# Altium footprint library Connector_Molex.PcbLib: 815 footprints (part 42 of 51)
Each footprint in its own frame and in the unit in brackets; x right, y up, seen from the top. Pads: shape width x height; smd on the part's side, far side on the other; paste and mask are expansions set on the pad; w line width, h text height; cw(c..) or ccw(c..) is an arc to the next point about the centre after c.
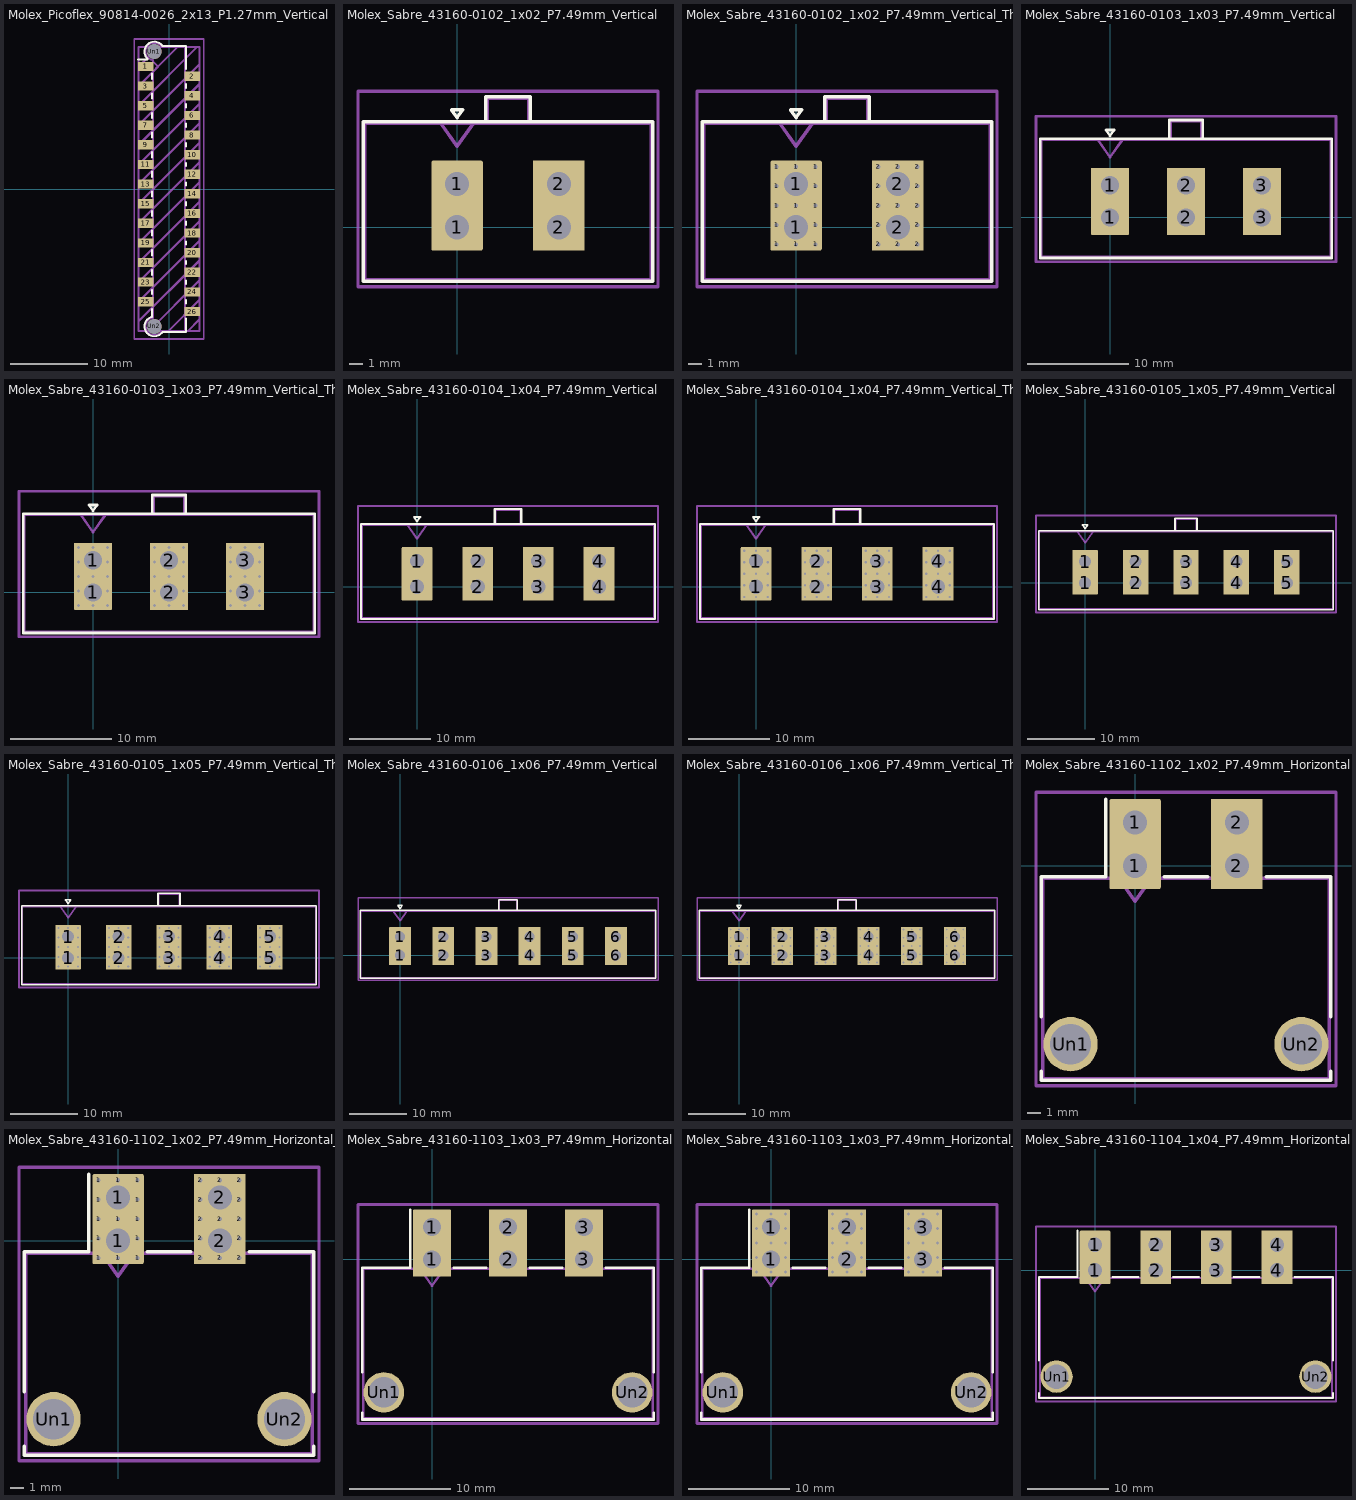
[diagram p41: the footprints below, top view; thin cyan lines are the x and y axes]

## Molex_Picoflex_90814-0026_2x13_P1.27mm_Vertical [mm]
pads (28):
  rect 2x1.2 smd: 1(-3,15.88) 2(3,14.61) 3(-3,13.34) 4(3,12.07) 5(-3,10.8) 6(3,9.53) 7(-3,8.26) 8(3,6.99) 9(-3,5.72) 10(3,4.45) 11(-3,3.18) 12(3,1.91) 13(-3,0.64) 14(3,-0.63) 15(-3,-1.9) 16(3,-3.17) 17(-3,-4.44) 18(3,-5.71) 19(-3,-6.98) 20(3,-8.25) 21(-3,-9.52) 22(3,-10.79) 23(-3,-12.06) 24(3,-13.33) 25(-3,-14.6) 26(3,-15.87)
  round 1.9 hole 1.9: Un1(-1.9,17.8) Un2(-1.9,-17.8)
F.SilkS:
  lines w0.254: -4,16.78 -2.81,16.78 -2.81,16.9 cw(c-1.9,17.8) -0.835,18.51 ; -2.18,-16.55 -2.18,-15.51 ; -2.18,-13.61 -2.18,-13.06 ; -2.18,-11.13 -2.18,-10.46 ; -2.18,-8.59 -2.18,-7.92 ; -2.18,-6.05 -2.18,-5.38 ; -2.18,-3.51 -2.18,-2.84 ; -2.18,-0.97 -2.18,-0.3 ; -2.18,1.57 -2.18,2.24 ; -2.18,4.11 -2.18,4.78 ; -2.18,6.65 -2.18,7.32 ; -2.18,9.19 -2.18,9.86 ; -2.18,11.73 -2.18,12.4 ; -2.18,14.27 -2.18,14.94 ; -2.174,-16.551 ccw(c-1.9,-17.8) -0.85,-18.53 2.18,-18.53 2.18,-16.78 ; -0.82,18.53 2.18,18.53 2.18,15.51 ; 2.18,-14.81 2.18,-14.39 ; 2.18,-12.28 2.18,-11.85 ; 2.18,-9.74 2.18,-9.31 ; 2.18,-7.2 2.18,-6.77 ; 2.18,-4.66 2.18,-4.23 ; 2.18,-2.12 2.18,-1.69 ; 2.18,0.42 2.18,0.85 ; 2.18,2.96 2.18,3.39 ; 2.18,5.5 2.18,5.93 ; 2.18,8.04 2.18,8.47 ; 2.18,10.58 2.18,11.01 ; 2.18,13.06 2.18,13.61
Top Assembly:
  lines w0.254: -2.051,-16.687 ccw(c-1.9,-17.8) -0.95,-18.4 2.05,-18.4 2.05,18.4 -0.93,18.4 ; -2.05,-16.68 -2.05,15.28 -1.45,15.88 -2.05,16.48 -2.05,16.68 cw(c-1.9,17.8) -0.946,18.405
  text "'.Designator'" at -0.51,-4.047 h1
Top Courtyard:
  lines w0.254: -4.5,-19.43 4.5,-19.43 4.5,19.43 -4.5,19.43 -4.5,-19.43
Top Designator:
  text ".Designator" at -7.618,-0.508 h1.52
Dwgs.User:
  lines w0.254: -3.95,-17.16 3.95,-9.26 ; -3.95,-14.62 3.95,-6.72 ; -3.95,-12.08 3.95,-4.18 ; -3.95,-9.54 3.95,-1.64 ; -3.95,-7 3.95,0.9 ; -3.95,-4.46 3.95,3.44 ; -3.95,-1.92 3.95,5.98 ; -3.95,0.62 3.95,8.52 ; -3.95,3.16 3.95,11.06 ; -3.95,5.7 3.95,13.6 ; -3.95,8.24 3.95,16.14 ; -3.95,10.78 3.67,18.4 ; -3.95,13.32 1.13,18.4 ; -3.95,15.86 -1.41,18.4 ; -2.65,-18.4 3.95,-11.8 ; -0.11,-18.4 3.95,-14.34 ; 2.43,-18.4 3.95,-16.88 ; -3.95,-18.4 3.95,-18.4 3.95,18.4 -3.95,18.4 -3.95,-18.4
Cmts.User:
  text "KEEPOUT" at 0.65,-3.128 h1

## Molex_Sabre_43160-0102_1x02_P7.49mm_Vertical [mm]
pads (4):
  rrect7% 3.78x3.43 hole 1.78: 1(0,0) 1(0,3.18)
  rect 3.78x3.43 hole 1.78: 2(7.49,0) 2(7.49,3.18)
F.SilkS:
  lines w0.254: 2.11,7.76 2.11,9.61 5.38,9.61 5.38,7.76 ; -6.9,-3.99 14.39,-3.99 14.39,7.76 -6.9,7.76 -6.9,-3.99 ; -0.4,8.626 0.4,8.626 0,8.06 -0.4,8.626
B.SilkS:
  lines w0.254: -2.15,-1.975 2.15,-1.975 2.15,5.155 -2.15,5.155 -2.15,-1.975
Top Assembly:
  lines w0.254: -1.2,7.65 0,5.953 1.2,7.65 ; 2.22,7.65 2.22,9.5 5.27,9.5 5.27,7.65 ; -6.79,-3.88 14.28,-3.88 14.28,7.65 -6.79,7.65 -6.79,-3.88
  text "'.Designator'" at -0.297,-4.02 h1
Top Courtyard:
  lines w0.254: -7.29,-4.38 14.78,-4.38 14.78,10 -7.29,10 -7.29,-4.38
Top Designator:
  text ".Designator" at -3.873,2.302 h1.52

## Molex_Sabre_43160-0102_1x02_P7.49mm_Vertical_ThermalVias [mm]
pads (30):
  rrect25% 0.6x0.6 hole 0.3: 1(-1.44,-1.265) 1(-1.44,0.162) 1(-1.44,1.59) 1(-1.44,3.017) 1(-1.44,4.445) 1(0,-1.265) 1(0,1.59) 1(0,4.445) 1(1.44,-1.265) 1(1.44,0.162) 1(1.44,1.59) 1(1.44,3.017) 1(1.44,4.445)
  rrect7% 3.78x3.43 hole 1.78: 1(0,0) 1(0,3.18)
  round 0.6 hole 0.3: 2(6.05,-1.265) 2(6.05,0.162) 2(6.05,1.59) 2(6.05,3.017) 2(6.05,4.445) 2(7.49,-1.265) 2(7.49,1.59) 2(7.49,4.445) 2(8.93,-1.265) 2(8.93,0.162) 2(8.93,1.59) 2(8.93,3.017) 2(8.93,4.445)
  rect 3.78x3.43 hole 1.78: 2(7.49,0) 2(7.49,3.18)
F.SilkS:
  lines w0.254: 2.11,7.76 2.11,9.61 5.38,9.61 5.38,7.76 ; -6.9,-3.99 14.39,-3.99 14.39,7.76 -6.9,7.76 -6.9,-3.99 ; -0.4,8.626 0.4,8.626 0,8.06 -0.4,8.626
B.SilkS:
  lines w0.254: -2.15,-1.975 2.15,-1.975 2.15,5.155 -2.15,5.155 -2.15,-1.975
Top Assembly:
  lines w0.254: -1.2,7.65 0,5.953 1.2,7.65 ; 2.22,7.65 2.22,9.5 5.27,9.5 5.27,7.65 ; -6.79,-3.88 14.28,-3.88 14.28,7.65 -6.79,7.65 -6.79,-3.88
  text "'.Designator'" at -0.297,-4.02 h1
Top Courtyard:
  lines w0.254: -7.29,-4.38 14.78,-4.38 14.78,10 -7.29,10 -7.29,-4.38
Top Designator:
  text ".Designator" at -3.873,2.302 h1.52

## Molex_Sabre_43160-0103_1x03_P7.49mm_Vertical [mm]
pads (6):
  rrect7% 3.78x3.43 hole 1.78: 1(0,0) 1(0,3.18)
  rect 3.78x3.43 hole 1.78: 2(7.49,0) 2(7.49,3.18) 3(14.98,0) 3(14.98,3.18)
F.SilkS:
  lines w0.254: 5.855,7.76 5.855,9.61 9.125,9.61 9.125,7.76 ; -6.9,-3.99 21.88,-3.99 21.88,7.76 -6.9,7.76 -6.9,-3.99 ; -0.4,8.626 0.4,8.626 0,8.06 -0.4,8.626
B.SilkS:
  lines w0.254: -2.15,-1.975 2.15,-1.975 2.15,5.155 -2.15,5.155 -2.15,-1.975
Top Assembly:
  lines w0.254: -1.2,7.65 0,5.953 1.2,7.65 ; 5.965,7.65 5.965,9.5 9.015,9.5 9.015,7.65 ; -6.79,-3.88 21.77,-3.88 21.77,7.65 -6.79,7.65 -6.79,-3.88
  text "'.Designator'" at 3.443,-4.02 h1
Top Courtyard:
  lines w0.254: -7.3,-4.38 22.28,-4.38 22.28,10 -7.3,10 -7.3,-4.38
Top Designator:
  text ".Designator" at -0.128,2.302 h1.52

## Molex_Sabre_43160-0103_1x03_P7.49mm_Vertical_ThermalVias [mm]
pads (45):
  rrect25% 0.6x0.6 hole 0.3: 1(-1.44,-1.265) 1(-1.44,0.162) 1(-1.44,1.59) 1(-1.44,3.017) 1(-1.44,4.445) 1(0,-1.265) 1(0,1.59) 1(0,4.445) 1(1.44,-1.265) 1(1.44,0.162) 1(1.44,1.59) 1(1.44,3.017) 1(1.44,4.445)
  rrect7% 3.78x3.43 hole 1.78: 1(0,0) 1(0,3.18)
  round 0.6 hole 0.3: 2(6.05,-1.265) 2(6.05,0.162) 2(6.05,1.59) 2(6.05,3.017) 2(6.05,4.445) 2(7.49,-1.265) 2(7.49,1.59) 2(7.49,4.445) 2(8.93,-1.265) 2(8.93,0.162) 2(8.93,1.59) 2(8.93,3.017) 2(8.93,4.445) 3(13.54,-1.265) 3(13.54,0.162) 3(13.54,1.59) 3(13.54,3.017) 3(13.54,4.445) 3(14.98,-1.265) 3(14.98,1.59) 3(14.98,4.445) 3(16.42,-1.265) 3(16.42,0.162) 3(16.42,1.59) 3(16.42,3.017) 3(16.42,4.445)
  rect 3.78x3.43 hole 1.78: 2(7.49,0) 2(7.49,3.18) 3(14.98,0) 3(14.98,3.18)
F.SilkS:
  lines w0.254: 5.855,7.76 5.855,9.61 9.125,9.61 9.125,7.76 ; -6.9,-3.99 21.88,-3.99 21.88,7.76 -6.9,7.76 -6.9,-3.99 ; -0.4,8.626 0.4,8.626 0,8.06 -0.4,8.626
B.SilkS:
  lines w0.254: -2.15,-1.975 2.15,-1.975 2.15,5.155 -2.15,5.155 -2.15,-1.975
Top Assembly:
  lines w0.254: -1.2,7.65 0,5.953 1.2,7.65 ; 5.965,7.65 5.965,9.5 9.015,9.5 9.015,7.65 ; -6.79,-3.88 21.77,-3.88 21.77,7.65 -6.79,7.65 -6.79,-3.88
  text "'.Designator'" at 3.443,-4.02 h1
Top Courtyard:
  lines w0.254: -7.3,-4.38 22.28,-4.38 22.28,10 -7.3,10 -7.3,-4.38
Top Designator:
  text ".Designator" at -0.128,2.302 h1.52

## Molex_Sabre_43160-0104_1x04_P7.49mm_Vertical [mm]
pads (8):
  rrect7% 3.78x3.43 hole 1.78: 1(0,0) 1(0,3.18)
  rect 3.78x3.43 hole 1.78: 2(7.49,0) 2(7.49,3.18) 3(14.98,0) 3(14.98,3.18) 4(22.47,0) 4(22.47,3.18)
F.SilkS:
  lines w0.254: 9.6,7.76 9.6,9.61 12.87,9.61 12.87,7.76 ; -6.9,-3.99 29.37,-3.99 29.37,7.76 -6.9,7.76 -6.9,-3.99 ; -0.4,8.626 0.4,8.626 0,8.06 -0.4,8.626
B.SilkS:
  lines w0.254: -2.15,-1.975 2.15,-1.975 2.15,5.155 -2.15,5.155 -2.15,-1.975
Top Assembly:
  lines w0.254: -1.2,7.65 0,5.953 1.2,7.65 ; 9.71,7.65 9.71,9.5 12.76,9.5 12.76,7.65 ; -6.79,-3.88 29.26,-3.88 29.26,7.65 -6.79,7.65 -6.79,-3.88
  text "'.Designator'" at 7.193,-4.02 h1
Top Courtyard:
  lines w0.254: -7.29,-4.38 29.76,-4.38 29.76,10 -7.29,10 -7.29,-4.38
Top Designator:
  text ".Designator" at 3.617,2.302 h1.52

## Molex_Sabre_43160-0104_1x04_P7.49mm_Vertical_ThermalVias [mm]
pads (60):
  rrect25% 0.6x0.6 hole 0.3: 1(-1.44,-1.265) 1(-1.44,0.162) 1(-1.44,1.59) 1(-1.44,3.017) 1(-1.44,4.445) 1(0,-1.265) 1(0,1.59) 1(0,4.445) 1(1.44,-1.265) 1(1.44,0.162) 1(1.44,1.59) 1(1.44,3.017) 1(1.44,4.445)
  rrect7% 3.78x3.43 hole 1.78: 1(0,0) 1(0,3.18)
  round 0.6 hole 0.3: 2(6.05,-1.265) 2(6.05,0.162) 2(6.05,1.59) 2(6.05,3.017) 2(6.05,4.445) 2(7.49,-1.265) 2(7.49,1.59) 2(7.49,4.445) 2(8.93,-1.265) 2(8.93,0.162) 2(8.93,1.59) 2(8.93,3.017) 2(8.93,4.445) 3(13.54,-1.265) 3(13.54,0.162) 3(13.54,1.59) 3(13.54,3.017) 3(13.54,4.445) 3(14.98,-1.265) 3(14.98,1.59) 3(14.98,4.445) 3(16.42,-1.265) 3(16.42,0.162) 3(16.42,1.59) 3(16.42,3.017) 3(16.42,4.445) 4(21.03,-1.265) 4(21.03,0.162) 4(21.03,1.59) 4(21.03,3.017) 4(21.03,4.445) 4(22.47,-1.265) 4(22.47,1.59) 4(22.47,4.445) 4(23.91,-1.265) 4(23.91,0.162) 4(23.91,1.59) 4(23.91,3.017) 4(23.91,4.445)
  rect 3.78x3.43 hole 1.78: 2(7.49,0) 2(7.49,3.18) 3(14.98,0) 3(14.98,3.18) 4(22.47,0) 4(22.47,3.18)
F.SilkS:
  lines w0.254: 9.6,7.76 9.6,9.61 12.87,9.61 12.87,7.76 ; -6.9,-3.99 29.37,-3.99 29.37,7.76 -6.9,7.76 -6.9,-3.99 ; -0.4,8.626 0.4,8.626 0,8.06 -0.4,8.626
B.SilkS:
  lines w0.254: -2.15,-1.975 2.15,-1.975 2.15,5.155 -2.15,5.155 -2.15,-1.975
Top Assembly:
  lines w0.254: -1.2,7.65 0,5.953 1.2,7.65 ; 9.71,7.65 9.71,9.5 12.76,9.5 12.76,7.65 ; -6.79,-3.88 29.26,-3.88 29.26,7.65 -6.79,7.65 -6.79,-3.88
  text "'.Designator'" at 7.193,-4.02 h1
Top Courtyard:
  lines w0.254: -7.29,-4.38 29.76,-4.38 29.76,10 -7.29,10 -7.29,-4.38
Top Designator:
  text ".Designator" at 3.617,2.302 h1.52

## Molex_Sabre_43160-0105_1x05_P7.49mm_Vertical [mm]
pads (10):
  rrect7% 3.78x3.43 hole 1.78: 1(0,0) 1(0,3.18)
  rect 3.78x3.43 hole 1.78: 2(7.49,0) 2(7.49,3.18) 3(14.98,0) 3(14.98,3.18) 4(22.47,0) 4(22.47,3.18) 5(29.96,0) 5(29.96,3.18)
F.SilkS:
  lines w0.254: 13.345,7.76 13.345,9.61 16.615,9.61 16.615,7.76 ; -6.9,-3.99 36.86,-3.99 36.86,7.76 -6.9,7.76 -6.9,-3.99 ; -0.4,8.626 0.4,8.626 0,8.06 -0.4,8.626
B.SilkS:
  lines w0.254: -2.15,-1.975 2.15,-1.975 2.15,5.155 -2.15,5.155 -2.15,-1.975
Top Assembly:
  lines w0.254: -1.2,7.65 0,5.953 1.2,7.65 ; 13.455,7.65 13.455,9.5 16.505,9.5 16.505,7.65 ; -6.79,-3.88 36.75,-3.88 36.75,7.65 -6.79,7.65 -6.79,-3.88
  text "'.Designator'" at 10.933,-4.02 h1
Top Courtyard:
  lines w0.254: -7.29,-4.38 37.25,-4.38 37.25,10 -7.29,10 -7.29,-4.38
Top Designator:
  text ".Designator" at 7.362,2.302 h1.52

## Molex_Sabre_43160-0105_1x05_P7.49mm_Vertical_ThermalVias [mm]
pads (75):
  rrect25% 0.6x0.6 hole 0.3: 1(-1.44,-1.265) 1(-1.44,0.162) 1(-1.44,1.59) 1(-1.44,3.017) 1(-1.44,4.445) 1(0,-1.265) 1(0,1.59) 1(0,4.445) 1(1.44,-1.265) 1(1.44,0.162) 1(1.44,1.59) 1(1.44,3.017) 1(1.44,4.445)
  rrect7% 3.78x3.43 hole 1.78: 1(0,0) 1(0,3.18)
  round 0.6 hole 0.3: 2(6.05,-1.265) 2(6.05,0.162) 2(6.05,1.59) 2(6.05,3.017) 2(6.05,4.445) 2(7.49,-1.265) 2(7.49,1.59) 2(7.49,4.445) 2(8.93,-1.265) 2(8.93,0.162) 2(8.93,1.59) 2(8.93,3.017) 2(8.93,4.445) 3(13.54,-1.265) 3(13.54,0.162) 3(13.54,1.59) 3(13.54,3.017) 3(13.54,4.445) 3(14.98,-1.265) 3(14.98,1.59) 3(14.98,4.445) 3(16.42,-1.265) 3(16.42,0.162) 3(16.42,1.59) 3(16.42,3.017) 3(16.42,4.445) 4(21.03,-1.265) 4(21.03,0.162) 4(21.03,1.59) 4(21.03,3.017) 4(21.03,4.445) 4(22.47,-1.265) 4(22.47,1.59) 4(22.47,4.445) 4(23.91,-1.265) 4(23.91,0.162) 4(23.91,1.59) 4(23.91,3.017) 4(23.91,4.445) 5(28.52,-1.265) 5(28.52,0.162) 5(28.52,1.59) 5(28.52,3.017) 5(28.52,4.445) 5(29.96,-1.265) 5(29.96,1.59) 5(29.96,4.445) 5(31.4,-1.265) 5(31.4,0.162) 5(31.4,1.59) 5(31.4,3.017) 5(31.4,4.445)
  rect 3.78x3.43 hole 1.78: 2(7.49,0) 2(7.49,3.18) 3(14.98,0) 3(14.98,3.18) 4(22.47,0) 4(22.47,3.18) 5(29.96,0) 5(29.96,3.18)
F.SilkS:
  lines w0.254: 13.345,7.76 13.345,9.61 16.615,9.61 16.615,7.76 ; -6.9,-3.99 36.86,-3.99 36.86,7.76 -6.9,7.76 -6.9,-3.99 ; -0.4,8.626 0.4,8.626 0,8.06 -0.4,8.626
B.SilkS:
  lines w0.254: -2.15,-1.975 2.15,-1.975 2.15,5.155 -2.15,5.155 -2.15,-1.975
Top Assembly:
  lines w0.254: -1.2,7.65 0,5.953 1.2,7.65 ; 13.455,7.65 13.455,9.5 16.505,9.5 16.505,7.65 ; -6.79,-3.88 36.75,-3.88 36.75,7.65 -6.79,7.65 -6.79,-3.88
  text "'.Designator'" at 10.933,-4.02 h1
Top Courtyard:
  lines w0.254: -7.29,-4.38 37.25,-4.38 37.25,10 -7.29,10 -7.29,-4.38
Top Designator:
  text ".Designator" at 7.362,2.302 h1.52

## Molex_Sabre_43160-0106_1x06_P7.49mm_Vertical [mm]
pads (12):
  rrect7% 3.78x3.43 hole 1.78: 1(0,0) 1(0,3.18)
  rect 3.78x3.43 hole 1.78: 2(7.49,0) 2(7.49,3.18) 3(14.98,0) 3(14.98,3.18) 4(22.47,0) 4(22.47,3.18) 5(29.96,0) 5(29.96,3.18) 6(37.45,0) 6(37.45,3.18)
F.SilkS:
  lines w0.254: 17.09,7.76 17.09,9.61 20.36,9.61 20.36,7.76 ; -6.9,-3.99 44.35,-3.99 44.35,7.76 -6.9,7.76 -6.9,-3.99 ; -0.4,8.626 0.4,8.626 0,8.06 -0.4,8.626
B.SilkS:
  lines w0.254: -2.15,-1.975 2.15,-1.975 2.15,5.155 -2.15,5.155 -2.15,-1.975
Top Assembly:
  lines w0.254: -1.2,7.65 0,5.953 1.2,7.65 ; 17.2,7.65 17.2,9.5 20.25,9.5 20.25,7.65 ; -6.79,-3.88 44.24,-3.88 44.24,7.65 -6.79,7.65 -6.79,-3.88
  text "'.Designator'" at 14.673,-4.02 h1
Top Courtyard:
  lines w0.254: -7.29,-4.38 44.74,-4.38 44.74,10 -7.29,10 -7.29,-4.38
Top Designator:
  text ".Designator" at 11.107,2.302 h1.52

## Molex_Sabre_43160-0106_1x06_P7.49mm_Vertical_ThermalVias [mm]
pads (90):
  rrect25% 0.6x0.6 hole 0.3: 1(-1.44,-1.265) 1(-1.44,0.162) 1(-1.44,1.59) 1(-1.44,3.017) 1(-1.44,4.445) 1(0,-1.265) 1(0,1.59) 1(0,4.445) 1(1.44,-1.265) 1(1.44,0.162) 1(1.44,1.59) 1(1.44,3.017) 1(1.44,4.445)
  rrect7% 3.78x3.43 hole 1.78: 1(0,0) 1(0,3.18)
  round 0.6 hole 0.3: 2(6.05,-1.265) 2(6.05,0.162) 2(6.05,1.59) 2(6.05,3.017) 2(6.05,4.445) 2(7.49,-1.265) 2(7.49,1.59) 2(7.49,4.445) 2(8.93,-1.265) 2(8.93,0.162) 2(8.93,1.59) 2(8.93,3.017) 2(8.93,4.445) 3(13.54,-1.265) 3(13.54,0.162) 3(13.54,1.59) 3(13.54,3.017) 3(13.54,4.445) 3(14.98,-1.265) 3(14.98,1.59) 3(14.98,4.445) 3(16.42,-1.265) 3(16.42,0.162) 3(16.42,1.59) 3(16.42,3.017) 3(16.42,4.445) 4(21.03,-1.265) 4(21.03,0.162) 4(21.03,1.59) 4(21.03,3.017) 4(21.03,4.445) 4(22.47,-1.265) 4(22.47,1.59) 4(22.47,4.445) 4(23.91,-1.265) 4(23.91,0.162) 4(23.91,1.59) 4(23.91,3.017) 4(23.91,4.445) 5(28.52,-1.265) 5(28.52,0.162) 5(28.52,1.59) 5(28.52,3.017) 5(28.52,4.445) 5(29.96,-1.265) 5(29.96,1.59) 5(29.96,4.445) 5(31.4,-1.265) 5(31.4,0.162) 5(31.4,1.59) 5(31.4,3.017) 5(31.4,4.445) 6(36.01,-1.265) 6(36.01,0.162) 6(36.01,1.59) 6(36.01,3.017) 6(36.01,4.445) 6(37.45,-1.265) 6(37.45,1.59) 6(37.45,4.445) 6(38.89,-1.265) 6(38.89,0.162) 6(38.89,1.59) 6(38.89,3.017) 6(38.89,4.445)
  rect 3.78x3.43 hole 1.78: 2(7.49,0) 2(7.49,3.18) 3(14.98,0) 3(14.98,3.18) 4(22.47,0) 4(22.47,3.18) 5(29.96,0) 5(29.96,3.18) 6(37.45,0) 6(37.45,3.18)
F.SilkS:
  lines w0.254: 17.09,7.76 17.09,9.61 20.36,9.61 20.36,7.76 ; -6.9,-3.99 44.35,-3.99 44.35,7.76 -6.9,7.76 -6.9,-3.99 ; -0.4,8.626 0.4,8.626 0,8.06 -0.4,8.626
B.SilkS:
  lines w0.254: -2.15,-1.975 2.15,-1.975 2.15,5.155 -2.15,5.155 -2.15,-1.975
Top Assembly:
  lines w0.254: -1.2,7.65 0,5.953 1.2,7.65 ; 17.2,7.65 17.2,9.5 20.25,9.5 20.25,7.65 ; -6.79,-3.88 44.24,-3.88 44.24,7.65 -6.79,7.65 -6.79,-3.88
  text "'.Designator'" at 14.673,-4.02 h1
Top Courtyard:
  lines w0.254: -7.29,-4.38 44.74,-4.38 44.74,10 -7.29,10 -7.29,-4.38
Top Designator:
  text ".Designator" at 11.107,2.302 h1.52

## Molex_Sabre_43160-1102_1x02_P7.49mm_Horizontal [mm]
pads (6):
  rrect7% 3.78x3.43 hole 1.78: 1(0,0) 1(0,3.18)
  rect 3.78x3.43 hole 1.78: 2(7.49,0) 2(7.49,3.18)
  round 4 hole 3: Un1(-4.75,-13.13) Un2(12.24,-13.13)
F.SilkS:
  lines w0.254: -6.9,-15.13 -6.9,-15.795 3.745,-15.795 14.39,-15.795 14.39,-15.13 ; -6.9,-11.13 -6.9,-0.815 -2.15,-0.815 -2.15,4.895 ; 2.15,-0.815 5.34,-0.815 ; 9.64,-0.815 14.39,-0.815 14.39,-11.13
B.SilkS:
  lines w0.254: -2.15,-1.975 2.15,-1.975 2.15,5.155 -2.15,5.155 -2.15,-1.975
Top Assembly:
  lines w0.254: -1.2,-0.925 0,-2.622 1.2,-0.925 ; -6.79,-15.685 14.28,-15.685 14.28,-0.925 -6.79,-0.925 -6.79,-15.685 ; -0.5,-0.925 0.5,-0.925 0.5,4.07 -0.5,4.07 -0.5,-0.925 ; 6.99,-0.925 7.99,-0.925 7.99,4.07 6.99,4.07 6.99,-0.925
  text "'.Designator'" at -0.297,-15.82 h1
Top Courtyard:
  lines w0.254: -7.29,-16.19 14.78,-16.19 14.78,5.4 -7.29,5.4 -7.29,-16.19
Top Designator:
  text ".Designator" at -3.873,-5.903 h1.52

## Molex_Sabre_43160-1102_1x02_P7.49mm_Horizontal_ThermalVias [mm]
pads (32):
  rrect25% 0.6x0.6 hole 0.3: 1(-1.44,-1.265) 1(-1.44,0.162) 1(-1.44,1.59) 1(-1.44,3.017) 1(-1.44,4.445) 1(0,-1.265) 1(0,1.59) 1(0,4.445) 1(1.44,-1.265) 1(1.44,0.162) 1(1.44,1.59) 1(1.44,3.017) 1(1.44,4.445)
  rrect7% 3.78x3.43 hole 1.78: 1(0,0) 1(0,3.18)
  round 0.6 hole 0.3: 2(6.05,-1.265) 2(6.05,0.162) 2(6.05,1.59) 2(6.05,3.017) 2(6.05,4.445) 2(7.49,-1.265) 2(7.49,1.59) 2(7.49,4.445) 2(8.93,-1.265) 2(8.93,0.162) 2(8.93,1.59) 2(8.93,3.017) 2(8.93,4.445)
  rect 3.78x3.43 hole 1.78: 2(7.49,0) 2(7.49,3.18)
  round 4 hole 3: Un1(-4.75,-13.13) Un2(12.24,-13.13)
F.SilkS:
  lines w0.254: -6.9,-15.13 -6.9,-15.795 3.745,-15.795 14.39,-15.795 14.39,-15.13 ; -6.9,-11.13 -6.9,-0.815 -2.15,-0.815 -2.15,4.895 ; 2.15,-0.815 5.34,-0.815 ; 9.64,-0.815 14.39,-0.815 14.39,-11.13
B.SilkS:
  lines w0.254: -2.15,-1.975 2.15,-1.975 2.15,5.155 -2.15,5.155 -2.15,-1.975
Top Assembly:
  lines w0.254: -1.2,-0.925 0,-2.622 1.2,-0.925 ; -6.79,-15.685 14.28,-15.685 14.28,-0.925 -6.79,-0.925 -6.79,-15.685 ; -0.5,-0.925 0.5,-0.925 0.5,4.07 -0.5,4.07 -0.5,-0.925 ; 6.99,-0.925 7.99,-0.925 7.99,4.07 6.99,4.07 6.99,-0.925
  text "'.Designator'" at -0.297,-15.82 h1
Top Courtyard:
  lines w0.254: -7.29,-16.19 14.78,-16.19 14.78,5.4 -7.29,5.4 -7.29,-16.19
Top Designator:
  text ".Designator" at -3.873,-5.903 h1.52

## Molex_Sabre_43160-1103_1x03_P7.49mm_Horizontal [mm]
pads (8):
  rrect7% 3.78x3.43 hole 1.78: 1(0,0) 1(0,3.18)
  rect 3.78x3.43 hole 1.78: 2(7.49,0) 2(7.49,3.18) 3(14.98,0) 3(14.98,3.18)
  round 4 hole 3: Un1(-4.75,-13.13) Un2(19.73,-13.13)
F.SilkS:
  lines w0.254: -6.9,-15.13 -6.9,-15.795 7.49,-15.795 21.88,-15.795 21.88,-15.13 ; -6.9,-11.13 -6.9,-0.815 -2.15,-0.815 -2.15,4.895 ; 2.15,-0.815 5.34,-0.815 ; 9.64,-0.815 12.83,-0.815 ; 17.13,-0.815 21.88,-0.815 21.88,-11.13
B.SilkS:
  lines w0.254: -2.15,-1.975 2.15,-1.975 2.15,5.155 -2.15,5.155 -2.15,-1.975
Top Assembly:
  lines w0.254: -1.2,-0.925 0,-2.622 1.2,-0.925 ; -6.79,-15.685 21.77,-15.685 21.77,-0.925 -6.79,-0.925 -6.79,-15.685 ; -0.5,-0.925 0.5,-0.925 0.5,4.07 -0.5,4.07 -0.5,-0.925 ; 6.99,-0.925 7.99,-0.925 7.99,4.07 6.99,4.07 6.99,-0.925 ; 14.48,-0.925 15.48,-0.925 15.48,4.07 14.48,4.07 14.48,-0.925
  text "'.Designator'" at 3.443,-15.82 h1
Top Courtyard:
  lines w0.254: -7.3,-16.19 22.28,-16.19 22.28,5.4 -7.3,5.4 -7.3,-16.19
Top Designator:
  text ".Designator" at -0.128,-5.903 h1.52

## Molex_Sabre_43160-1103_1x03_P7.49mm_Horizontal_ThermalVias [mm]
pads (47):
  rrect25% 0.6x0.6 hole 0.3: 1(-1.44,-1.265) 1(-1.44,0.162) 1(-1.44,1.59) 1(-1.44,3.017) 1(-1.44,4.445) 1(0,-1.265) 1(0,1.59) 1(0,4.445) 1(1.44,-1.265) 1(1.44,0.162) 1(1.44,1.59) 1(1.44,3.017) 1(1.44,4.445)
  rrect7% 3.78x3.43 hole 1.78: 1(0,0) 1(0,3.18)
  round 0.6 hole 0.3: 2(6.05,-1.265) 2(6.05,0.162) 2(6.05,1.59) 2(6.05,3.017) 2(6.05,4.445) 2(7.49,-1.265) 2(7.49,1.59) 2(7.49,4.445) 2(8.93,-1.265) 2(8.93,0.162) 2(8.93,1.59) 2(8.93,3.017) 2(8.93,4.445) 3(13.54,-1.265) 3(13.54,0.162) 3(13.54,1.59) 3(13.54,3.017) 3(13.54,4.445) 3(14.98,-1.265) 3(14.98,1.59) 3(14.98,4.445) 3(16.42,-1.265) 3(16.42,0.162) 3(16.42,1.59) 3(16.42,3.017) 3(16.42,4.445)
  rect 3.78x3.43 hole 1.78: 2(7.49,0) 2(7.49,3.18) 3(14.98,0) 3(14.98,3.18)
  round 4 hole 3: Un1(-4.75,-13.13) Un2(19.73,-13.13)
F.SilkS:
  lines w0.254: -6.9,-15.13 -6.9,-15.795 7.49,-15.795 21.88,-15.795 21.88,-15.13 ; -6.9,-11.13 -6.9,-0.815 -2.15,-0.815 -2.15,4.895 ; 2.15,-0.815 5.34,-0.815 ; 9.64,-0.815 12.83,-0.815 ; 17.13,-0.815 21.88,-0.815 21.88,-11.13
B.SilkS:
  lines w0.254: -2.15,-1.975 2.15,-1.975 2.15,5.155 -2.15,5.155 -2.15,-1.975
Top Assembly:
  lines w0.254: -1.2,-0.925 0,-2.622 1.2,-0.925 ; -6.79,-15.685 21.77,-15.685 21.77,-0.925 -6.79,-0.925 -6.79,-15.685 ; -0.5,-0.925 0.5,-0.925 0.5,4.07 -0.5,4.07 -0.5,-0.925 ; 6.99,-0.925 7.99,-0.925 7.99,4.07 6.99,4.07 6.99,-0.925 ; 14.48,-0.925 15.48,-0.925 15.48,4.07 14.48,4.07 14.48,-0.925
  text "'.Designator'" at 3.443,-15.82 h1
Top Courtyard:
  lines w0.254: -7.3,-16.19 22.28,-16.19 22.28,5.4 -7.3,5.4 -7.3,-16.19
Top Designator:
  text ".Designator" at -0.128,-5.903 h1.52

## Molex_Sabre_43160-1104_1x04_P7.49mm_Horizontal [mm]
pads (10):
  rrect7% 3.78x3.43 hole 1.78: 1(0,0) 1(0,3.18)
  rect 3.78x3.43 hole 1.78: 2(7.49,0) 2(7.49,3.18) 3(14.98,0) 3(14.98,3.18) 4(22.47,0) 4(22.47,3.18)
  round 4 hole 3: Un1(-4.75,-13.13) Un2(27.22,-13.13)
F.SilkS:
  lines w0.254: -6.9,-15.13 -6.9,-15.795 11.235,-15.795 29.37,-15.795 29.37,-15.13 ; -6.9,-11.13 -6.9,-0.815 -2.15,-0.815 -2.15,4.895 ; 2.15,-0.815 5.34,-0.815 ; 9.64,-0.815 12.83,-0.815 ; 17.13,-0.815 20.32,-0.815 ; 24.62,-0.815 29.37,-0.815 29.37,-11.13
B.SilkS:
  lines w0.254: -2.15,-1.975 2.15,-1.975 2.15,5.155 -2.15,5.155 -2.15,-1.975
Top Assembly:
  lines w0.254: -1.2,-0.925 0,-2.622 1.2,-0.925 ; -6.79,-15.685 29.26,-15.685 29.26,-0.925 -6.79,-0.925 -6.79,-15.685 ; -0.5,-0.925 0.5,-0.925 0.5,4.07 -0.5,4.07 -0.5,-0.925 ; 6.99,-0.925 7.99,-0.925 7.99,4.07 6.99,4.07 6.99,-0.925 ; 14.48,-0.925 15.48,-0.925 15.48,4.07 14.48,4.07 14.48,-0.925 ; 21.97,-0.925 22.97,-0.925 22.97,4.07 21.97,4.07 21.97,-0.925
  text "'.Designator'" at 7.193,-15.82 h1
Top Courtyard:
  lines w0.254: -7.29,-16.19 29.76,-16.19 29.76,5.4 -7.29,5.4 -7.29,-16.19
Top Designator:
  text ".Designator" at 3.617,-5.903 h1.52